# Altium footprint library PEI_PCB_1.1.PcbLib: 310 footprints (part 18 of 20)
Each footprint in its own frame and in the unit in brackets; x right, y up, seen from the top. Pads: shape width x height; smd on the part's side, far side on the other; paste and mask are expansions set on the pad; w line width, h text height; cw(c..) or ccw(c..) is an arc to the next point about the centre after c.
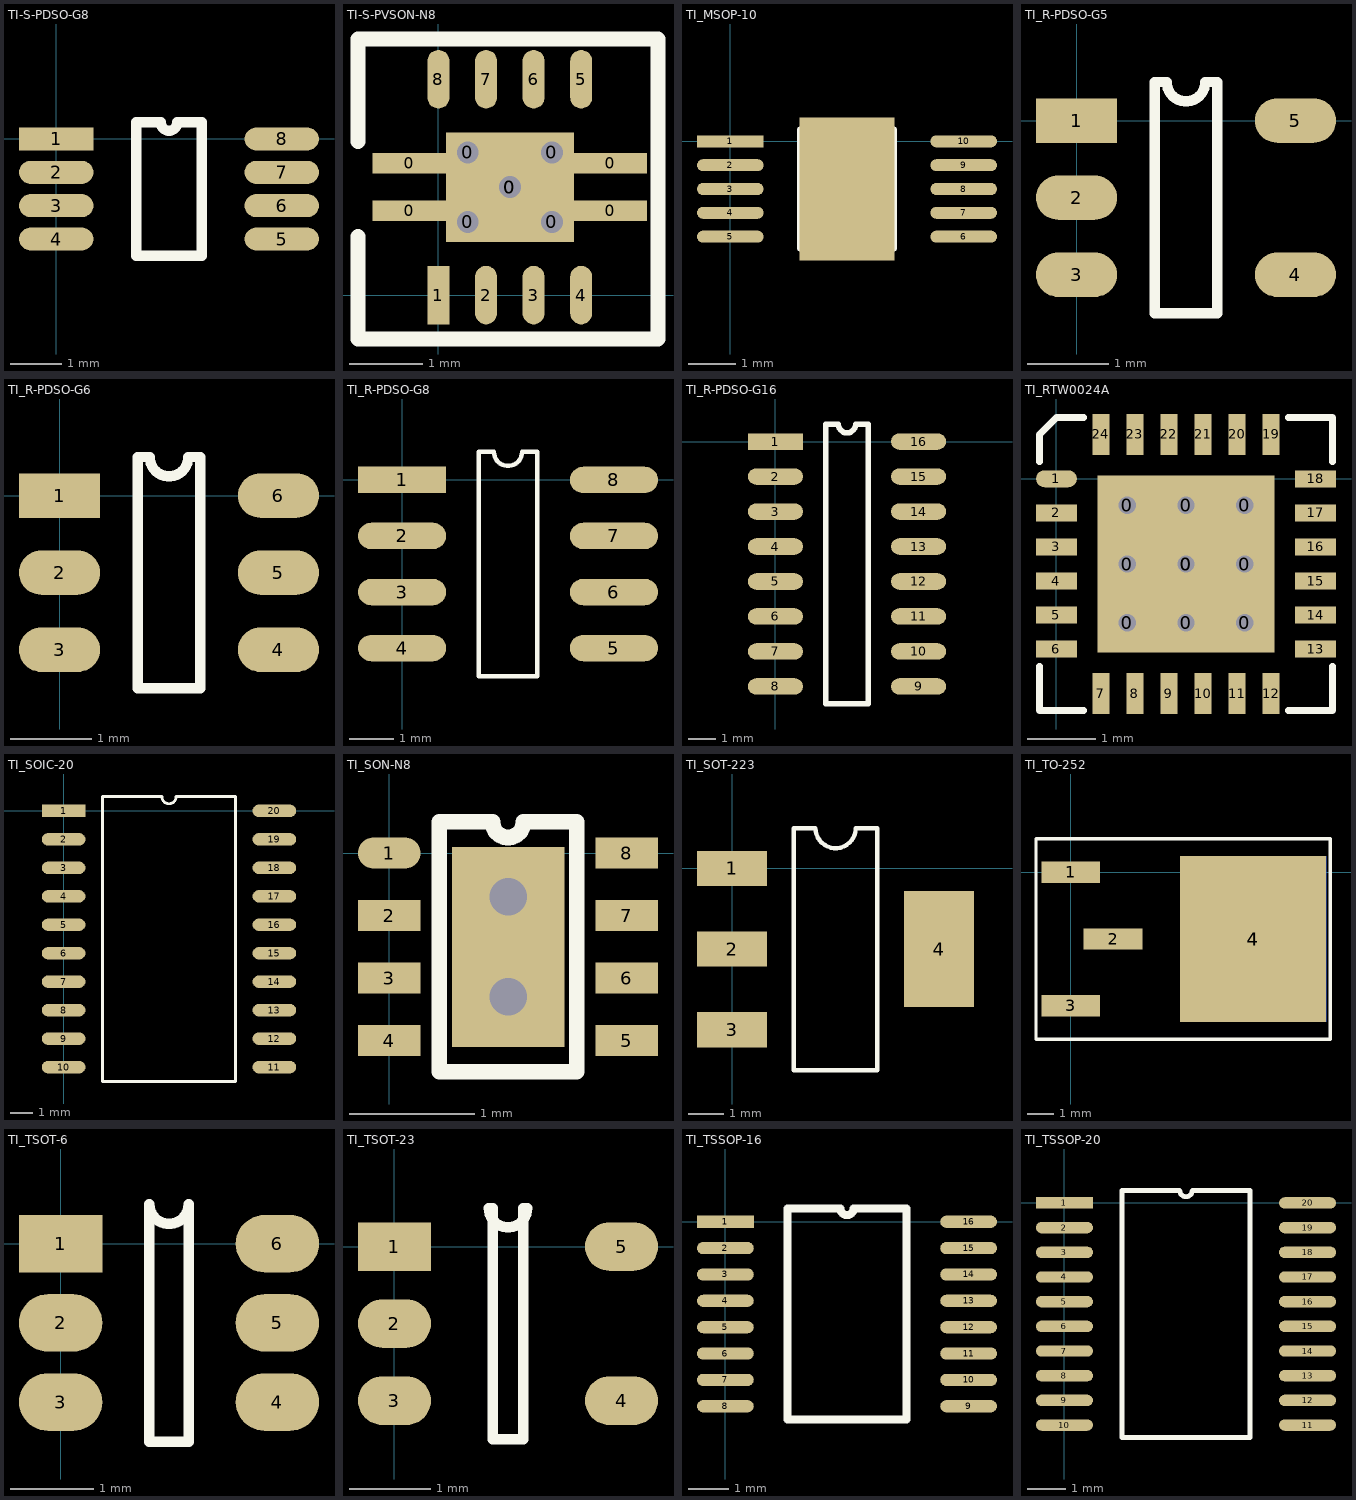
[diagram p17: the footprints below, top view; thin cyan lines are the x and y axes]

## TI-S-PDSO-G8 [mm]
pads (8):
  rect 1.45x0.45 smd: 1(0,0)
  oval 1.45x0.45 smd: 2(0,-0.65) 3(0,-1.3) 4(0,-1.95) 5(4.4,-1.95) 6(4.4,-1.3) 7(4.4,-0.65) 8(4.4,0)
TopOverlay:
  lines w0.2: 1.56,-2.275 2.84,-2.275 2.84,0.325 2.362,0.325 cw(c2.2,0.325) 2.037,0.325 1.56,0.325 1.56,-2.275

## TI-S-PVSON-N8 [mm]
pads (18):
  rect 1x0.28 smd: 0(-0.4,1.15) 0(-0.4,1.8) 0(2.35,1.15) 0(2.35,1.8)
  round 0.5 hole 0.3: 0(0.4,1) 0(0.4,1.95) 0(0.975,1.475) 0(1.55,1) 0(1.55,1.95)
  rect 1.75x1.5 smd: 0(0.975,1.475)
  rect 0.3x0.8 smd: 1(0,0)
  oval 0.3x0.8 smd: 2(0.65,0) 3(1.3,0) 4(1.95,0) 5(1.95,2.95) 6(1.3,2.95) 7(0.65,2.95) 8(0,2.95)
TopOverlay:
  lines w0.2: -1.1,0.8 -1.1,-0.6 3,-0.6 3,3.5 -1.1,3.5 -1.1,2.1

## TI_MSOP-10 [mm]
pads (11):
  rect 1.4x0.25 smd: 1(0,0)
  oval 1.4x0.25 smd: 2(0,-0.5) 3(0,-1) 4(0,-1.5) 5(0,-2) 6(4.9,-2) 7(4.9,-1.5) 8(4.9,-1) 9(4.9,-0.5) 10(4.9,0)
  rect 2x3 smd: ""(2.45,-1)
TopOverlay:
  lines w0.127: 1.462,-2.25 3.438,-2.25 3.438,0.25 2.575,0.25 cw(c2.45,0.25) 2.325,0.25 1.462,0.25 1.462,-2.25

## TI_R-PDSO-G5 [mm]
pads (5):
  rect 1x0.55 smd: 1(0,0)
  oval 1x0.55 smd: 2(0,-0.95) 3(0,-1.9) 4(2.7,-1.9) 5(2.7,0)
TopOverlay:
  lines w0.127: 0.963,-2.375 1.737,-2.375 1.737,0.475 1.587,0.475 cw(c1.35,0.475) 1.112,0.475 0.963,0.475 0.963,-2.375

## TI_R-PDSO-G6 [mm]
pads (6):
  rect 1x0.55 smd: 1(0,0)
  oval 1x0.55 smd: 2(0,-0.95) 3(0,-1.9) 4(2.7,-1.9) 5(2.7,-0.95) 6(2.7,0)
TopOverlay:
  lines w0.127: 0.963,-2.375 1.737,-2.375 1.737,0.475 1.587,0.475 cw(c1.35,0.475) 1.112,0.475 0.963,0.475 0.963,-2.375

## TI_R-PDSO-G8 [mm]
pads (8):
  rect 2x0.6 smd: 1(0,0)
  oval 2x0.6 smd: 2(0,-1.27) 3(0,-2.54) 4(0,-3.81) 5(4.8,-3.81) 6(4.8,-2.54) 7(4.8,-1.27) 8(4.8,0)
TopOverlay:
  lines w0.1: 1.735,-4.445 3.065,-4.445 3.065,0.635 2.717,0.635 cw(c2.4,0.635) 2.082,0.635 1.735,0.635 1.735,-4.445

## TI_R-PDSO-G16 [mm]
pads (16):
  rect 2x0.6 smd: 1(0,0)
  oval 2x0.6 smd: 2(0,-1.27) 3(0,-2.54) 4(0,-3.81) 5(0,-5.08) 6(0,-6.35) 7(0,-7.62) 8(0,-8.89) 9(5.2,-8.89) 10(5.2,-7.62) 11(5.2,-6.35) 12(5.2,-5.08) 13(5.2,-3.81) 14(5.2,-2.54) 15(5.2,-1.27) 16(5.2,0)
TopOverlay:
  lines w0.2: 1.835,-9.525 1.835,0.635 2.282,0.635 ccw(c2.6,0.635) 2.917,0.635 3.365,0.635 3.365,-9.525 1.835,-9.525

## TI_RTW0024A [mm]
pads (34):
  round 0.381 hole 0.254: 0(1.036,-2.114) 0(1.036,-1.25) 0(1.036,-0.386) 0(1.9,-2.114) 0(1.9,-1.25) 0(1.9,-0.386) 0(2.764,-2.114) 0(2.764,-1.25) 0(2.764,-0.386)
  rect 2.6x2.6 smd: 0(1.9,-1.25)
  oval 0.6x0.25 smd: 1(0,0)
  rect 0.6x0.25 smd: 2(0,-0.5) 3(0,-1) 4(0,-1.5) 5(0,-2) 6(0,-2.5) 13(3.8,-2.5) 14(3.8,-2) 15(3.8,-1.5) 16(3.8,-1) 17(3.8,-0.5) 18(3.8,0)
  rect 0.25x0.6 smd: 7(0.65,-3.15) 8(1.15,-3.15) 9(1.65,-3.15) 10(2.15,-3.15) 11(2.65,-3.15) 12(3.15,-3.15) 19(3.15,0.65) 20(2.65,0.65) 21(2.15,0.65) 22(1.65,0.65) 23(1.15,0.65) 24(0.65,0.65)
TopOverlay:
  lines w0.1: -0.25,-2.75 -0.25,-3.4 0.4,-3.4 ; -0.25,0.25 -0.25,0.65 0,0.9 0.4,0.9 ; 3.4,-3.4 4.05,-3.4 4.05,-2.75 ; 3.4,0.9 4.05,0.9 4.05,0.25

## TI_SOIC-20 [mm]
pads (20):
  rect 1.95x0.55 smd: 1(0,0)
  oval 1.95x0.55 smd: 2(0,-1.27) 3(0,-2.54) 4(0,-3.81) 5(0,-5.08) 6(0,-6.35) 7(0,-7.62) 8(0,-8.89) 9(0,-10.16) 10(0,-11.43) 11(9.4,-11.43) 12(9.4,-10.16) 13(9.4,-8.89) 14(9.4,-7.62) 15(9.4,-6.35) 16(9.4,-5.08) 17(9.4,-3.81) 18(9.4,-2.54) 19(9.4,-1.27) 20(9.4,0)
TopOverlay:
  lines w0.127: 1.737,-12.065 1.737,0.635 4.382,0.635 ccw(c4.7,0.635) 5.017,0.635 7.663,0.635 7.663,-12.065 1.737,-12.065

## TI_SON-N8 [mm]
pads (9):
  oval 0.5x0.25 smd: 1(0,0)
  rect 0.5x0.25 smd: 2(0,-0.5) 3(0,-1) 4(0,-1.5) 5(1.9,-1.5) 6(1.9,-1) 7(1.9,-0.5) 8(1.9,0)
  rect 0.9x1.6 smd: ""(0.95,-0.75)
via 0.95,-0.35 diameter 0.3 hole 0.3
via 0.95,-1.15 diameter 0.3 hole 0.3
TopOverlay:
  lines w0.127: 0.4,-1.75 0.4,0.25 0.825,0.25 ccw(c0.95,0.25) 1.075,0.25 1.5,0.25 1.5,-1.75 0.4,-1.75

## TI_SOT-223 [mm]
pads (4):
  rect 2x1 smd: 1(0,0) 2(0,-2.3) 3(0,-4.6)
  rect 2x3.3 smd: 4(5.9,-2.3)
TopOverlay:
  lines w0.127: 1.762,-5.75 4.138,-5.75 4.138,1.15 3.525,1.15 cw(c2.95,1.15) 2.375,1.15 1.762,1.15 1.762,-5.75

## TI_TO-252 [mm]
pads (5):
  rect 2.2x0.8 smd: 1(0,0) 2(1.58,-2.5) 3(0,-5)
  rect 5.46x6.2 smd: 4(6.82,-2.5)
  rect 5.46x6.2 smd far side: 4(6.82,-2.5)
TopOverlay:
  lines w0.127: -1.3,-6.25 9.7,-6.25 9.7,1.25 -1.3,1.25 -1.3,-6.25

## TI_TSOT-6 [mm]
pads (6):
  rect 1x0.69 smd: 1(0,0)
  oval 1x0.69 smd: 2(0,-0.95) 3(0,-1.9) 4(2.6,-1.9) 5(2.6,-0.95) 6(2.6,0)
TopOverlay:
  lines w0.127: 1.062,-2.375 1.538,-2.375 1.538,0.475 cw(c1.3,0.475) 1.062,0.475 1.062,-2.375

## TI_TSOT-23 [mm]
pads (5):
  rect 0.9x0.6 smd: 1(0,0)
  oval 0.9x0.6 smd: 2(0,-0.95) 3(0,-1.9) 4(2.8,-1.9) 5(2.8,0)
TopOverlay:
  lines w0.127: 1.162,0.475 ccw(c1.4,0.475) 1.637,0.475 1.588,0.475 1.588,-2.375 1.212,-2.375 1.212,0.475 1.162,0.475

## TI_TSSOP-16 [mm]
pads (16):
  rect 1.4x0.3 smd: 1(0,0)
  oval 1.4x0.3 smd: 2(0,-0.65) 3(0,-1.3) 4(0,-1.95) 5(0,-2.6) 6(0,-3.25) 7(0,-3.9) 8(0,-4.55) 9(6,-4.55) 10(6,-3.9) 11(6,-3.25) 12(6,-2.6) 13(6,-1.95) 14(6,-1.3) 15(6,-0.65) 16(6,0)
TopOverlay:
  lines w0.2: 1.535,-4.875 1.535,0.325 2.838,0.325 ccw(c3,0.325) 3.162,0.325 4.465,0.325 4.465,-4.875 1.535,-4.875

## TI_TSSOP-20 [mm]
pads (20):
  rect 1.5x0.3 smd: 1(0,0)
  oval 1.5x0.3 smd: 2(0,-0.65) 3(0,-1.3) 4(0,-1.95) 5(0,-2.6) 6(0,-3.25) 7(0,-3.9) 8(0,-4.55) 9(0,-5.2) 10(0,-5.85) 11(6.4,-5.85) 12(6.4,-5.2) 13(6.4,-4.55) 14(6.4,-3.9) 15(6.4,-3.25) 16(6.4,-2.6) 17(6.4,-1.95) 18(6.4,-1.3) 19(6.4,-0.65) 20(6.4,0)
TopOverlay:
  lines w0.127: 1.512,-6.175 1.512,0.325 3.037,0.325 ccw(c3.2,0.325) 3.362,0.325 4.888,0.325 4.888,-6.175 1.512,-6.175